# EAGLE library part ESPRESSO-LITE-V1 (library cmmc_lbr1)
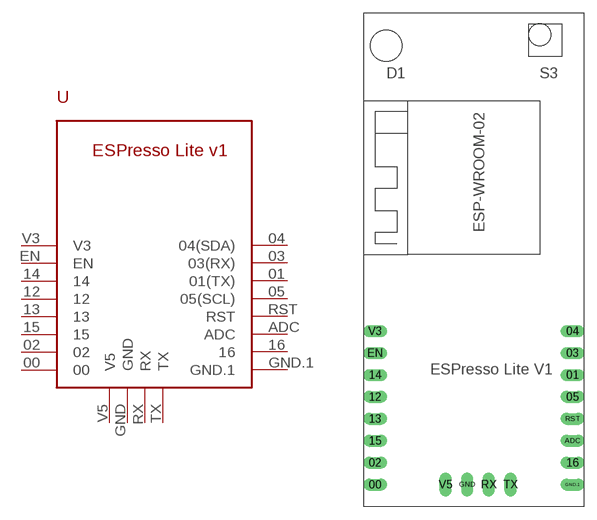
[diagram p1: symbol with the pads of ESPRESSO-LITE-V1; footprint ESPRESSO-LITE-V1]

Designator prefix -

## ESPRESSO-LITE-V1  [ESPRESSO-LITE-V1]
00  00
01  01(TX)
02  02
03  03(RX)
04  04(SDA)
05  05(SCL)
12  12
13  13
14  14
15  15
16  16
ADC  ADC
EN  EN
GND  GND
GND.1  GND.1
RST  RST
RX  RX
TX  TX
V3  V3
V5  V5

## Footprint ESPRESSO-LITE-V1 (pad centres in mm)
drill 0.9 pad 1.016 long: 00 -10.16,5.08; 01 12.7,17.78; 02 -10.16,7.62; 03 12.7,20.32; 04 12.7,22.86; 05 12.7,15.24; 12 -10.16,15.24; 13 -10.16,12.7; 14 -10.16,17.78; 15 -10.16,10.16; 16 12.7,7.62; ADC 12.7,10.16; EN -10.16,20.32; GND 0.5,5.1; GND.1 12.7,5.08; RST 12.7,12.7; RX 3,5.1; TX 5.5,5.1; V3 -10.16,22.86; V5 -2,5.1